# Altium footprint library 470uF_Joes.PcbLib: 1 footprints
Each footprint in its own frame and in the unit in brackets; x right, y up, seen from the top. Pads: shape width x height; smd on the part's side, far side on the other; paste and mask are expansions set on the pad; w line width, h text height; cw(c..) or ccw(c..) is an arc to the next point about the centre after c.
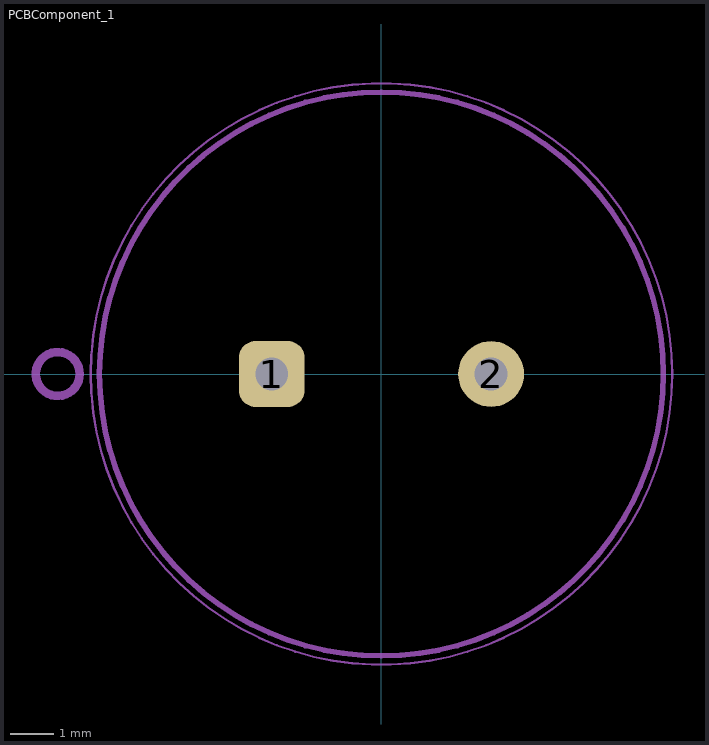
[diagram p0: the footprint, top view; thin cyan lines are the x and y axes]

## PCBComponent_1 [mil]
pads (2):
  rrect50% 60x60 hole 30: 1(-100,0)
  round 60 hole 30: 2(100,0)
Mechanical 13:
  circle w7.87: c-295,0 r20
  circle w5: c0,0 r257
Mechanical 15:
  circle w1.97: c0,0 r265